# EAGLE library part 645010117322 (library Wurth_Connectors_WR-WTB)
WR-WTB 3.96 mm Male Right Angled Locking Header KIND PROPERTIES: Pitch:3.96mm Gender:Male MATERIAL PROPERTIES: Insulator Material :PA66 Insulator Flammability Rating:UL94 V-2 Color:White Contact Material:Copper Alloy Contact Plating:Tin Contact Type:Stamped GENERAL INFORMATION Operating Temperature:-40 up to +105 °C Compliance: RoHS Working Voltage:250 V (AC) Withstanding Voltage:1500 V (AC) Contact Resistance:20 mΩ RISO:1000 MΩ CERTIFICATION UL Approval:E323964 PACKAGING PROPERTIES Packaging:Bag <https://katalog.we-online.com/media/images/v2/o61038v209%20Family_Con_WTB_3.96_PCB_THT_6450xx117322_pf2.jpg> Details see: https://katalog.we-online.com/en/em/WTB_3_96_MALE_RIGHT_ANGLED_LOCKING_HEADER_6450XX117322 Updated by Yingchun,Shan 2019-11-05 2019 (C) Würth Elektronik
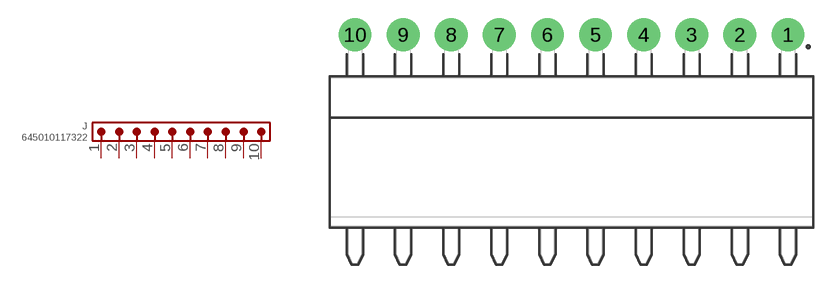
[diagram p58: symbol with the pads of 645010117322; footprint 645010117322]

Designator prefix J

## 645010117322 (CONTACT-RESISTANCE: 20mOhm; DATASHEET-URL: https://www.we-online.com/redexpert/spec/645010117322?ae; GENDER: Male; IR: 7A; L: 39.6mm; MOUNT: THT; PACKAGING: Bag; PART-NUMBER: 645010117322; PCB-CABLE-PANEL: PCB; PINS: 10; PITCH: 3.96mm; TYPE: Right Angled; VALUE: 645010117322; WORKING-VOLTAGE: 250V(AC))  [645010117322]
1  1  pas
2  2  pas
3  3  pas
4  4  pas
5  5  pas
6  6  pas
7  7  pas
8  8  pas
9  9  pas
10  10  pas

## Footprint 645010117322 (pad centres in mm)
WR-WTB 3.96 mm Male Right Angled Locking Header,10 Pins
drill 1.8: 1 17.82,5.13; 2 13.86,5.13; 3 9.9,5.13; 4 5.94,5.13; 5 1.98,5.13; 6 -1.98,5.13; 7 -5.94,5.13; 8 -9.9,5.13; 9 -13.86,5.13; 10 -17.82,5.13